# Altium footprint library TO304P498X1010X2089-3P.PcbLib: 1 footprints
Each footprint in its own frame and in the unit in brackets; x right, y up, seen from the top. Pads: shape width x height; smd on the part's side, far side on the other; paste and mask are expansions set on the pad; w line width, h text height; cw(c..) or ccw(c..) is an arc to the next point about the centre after c.
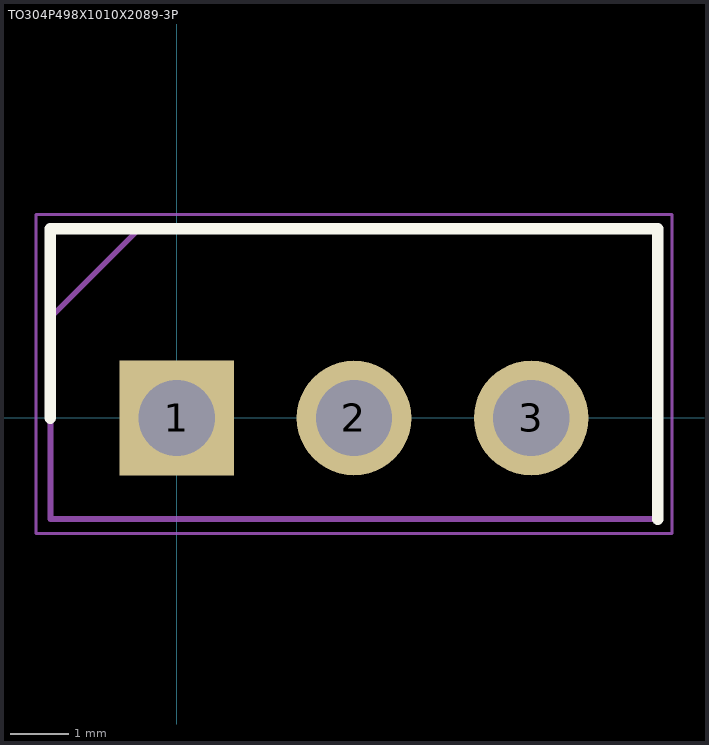
[diagram p0: the footprint, top view; thin cyan lines are the x and y axes]

## TO304P498X1010X2089-3P [mm]
pads (3):
  rect 1.965x1.965 / inner round 1.965 / far side rect 1.965x1.965 hole 1.31: 1(0,0)
  round 1.965 hole 1.31: 2(3.04,0) 3(6.08,0)
Top Overlay:
  lines w0.2: -2.17,0 -2.17,3.245 8.25,3.245 8.25,-1.735
Mechanical 15:
  lines w0.1: -2.17,1.725 -0.65,3.245 ; -2.17,-1.735 -2.17,3.245 8.25,3.245 8.25,-1.735 -2.17,-1.735
Mechanical 20:
  lines w0.05: -2.42,-1.985 -2.42,3.495 8.5,3.495 8.5,-1.985 -2.42,-1.985
3D body "2SD313.stp": height 19.12, standoff -19.07, extent -1.905,-3.302 8.195,1.678